# EAGLE library part 632712000112 (library WR-USB)
WR-USB Type C Connectors Characteristics Available in 24p (3.x), 16p (2.0) and 6p (Power Delivery only) Aligned with Power Delivery up to 240W High durability (10 000 cycles) UL, TID listing for USB standards Applications Mobile computing and smart devices High-performance industrial and medical systems Consumer electronics and multimedia hubs Smart buildings Details see: www.we-online.com/en/components/products/INPUT_OUTPUT_WR_USB_STANDARD Updated by Ella 2024-05-21 2024 (C) Würth Elektronik
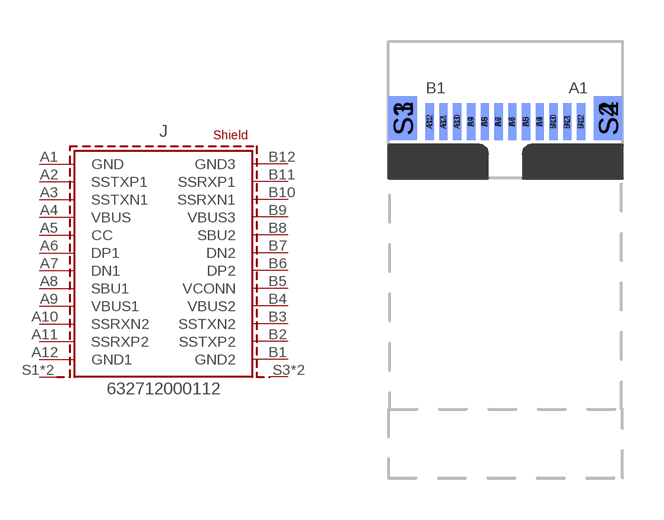
[diagram p1: symbol with the pads of 632712000112; footprint 632712000112]

Designator prefix J

## 632712000112 (APPLICATION: USB 3.1; DATASHEET: https://www.we-online.com/redexpert/spec/632712000112?ae; GERDER: Plug; INTERFACE-TYPE: Type C; IR: 5 A; MOUNT: SMT; PACKAGING: Tray; PART-NUMBER: 632712000112; PCB-THICKNESS: 0.8 mm; PINS: 24pcs; TYPE: Horizontal; VALUE: 632712000112; WORKING-VOLTAGE: 48 V (DC))  [632712000112]
A1  GND  pas
A2  SSTXP1  pas
A3  SSTXN1  pas
A4  VBUS  pas
A5  CC  pas
A6  DP1  pas
A7  DN1  pas
A8  SBU1  pas
A9  VBUS1  pas
A10  SSRXN2  pas
A11  SSRXP2  pas
A12  GND1  pas
B1  GND2  pas
B2  SSTXP2  pas
B3  SSTXN2  pas
B4  VBUS2  pas
B5  VCONN  pas
B6  DP2  pas
B7  DN2  pas
B8  SBU2  pas
B9  VBUS3  pas
B10  SSRXN1  pas
B11  SSRXP1  pas
B12  GND3  pas
S1  SHIELD  pas
S2  SHIELD  pas
S3  SHIELD1  pas
S4  SHIELD1  pas

## Footprint 632712000112 (pad centres in mm)
WR-USB Type C Connectors USB 3.1, Type C, Horizontal SMT, 24Pins, PCB Thickness:0.8 mm
smd 0.3 x 1.35: A1 2.75,4.675; A2 2.25,4.675; A3 1.75,4.675; A4 1.25,4.675; A5 0.75,4.675; A6 0.25,4.675; A7 -0.25,4.675; A8 -0.75,4.675; A9 -1.25,4.675; A10 -1.75,4.675; A11 -2.25,4.675; A12 -2.75,4.675
smd 0.3 x 1.35 bottom: B1 -2.75,4.675; B2 -2.25,4.675; B3 -1.75,4.675; B4 -1.25,4.675; B5 -0.75,4.675; B6 -0.25,4.675; B7 0.25,4.675; B8 0.75,4.675; B9 1.25,4.675; B10 1.75,4.675; B11 2.25,4.675; B12 2.75,4.675
smd 1.04 x 1.6: S1 -3.73,4.8; S2 3.73,4.8
smd 1.04 x 1.6 bottom: S3 -3.73,4.8; S4 3.73,4.8